# Altium footprint library LEDs.PcbLib: 17 footprints (part 1 of 2)
Each footprint in its own frame and in the unit in brackets; x right, y up, seen from the top. Pads: shape width x height; smd on the part's side, far side on the other; paste and mask are expansions set on the pad; w line width, h text height; cw(c..) or ccw(c..) is an arc to the next point about the centre after c.
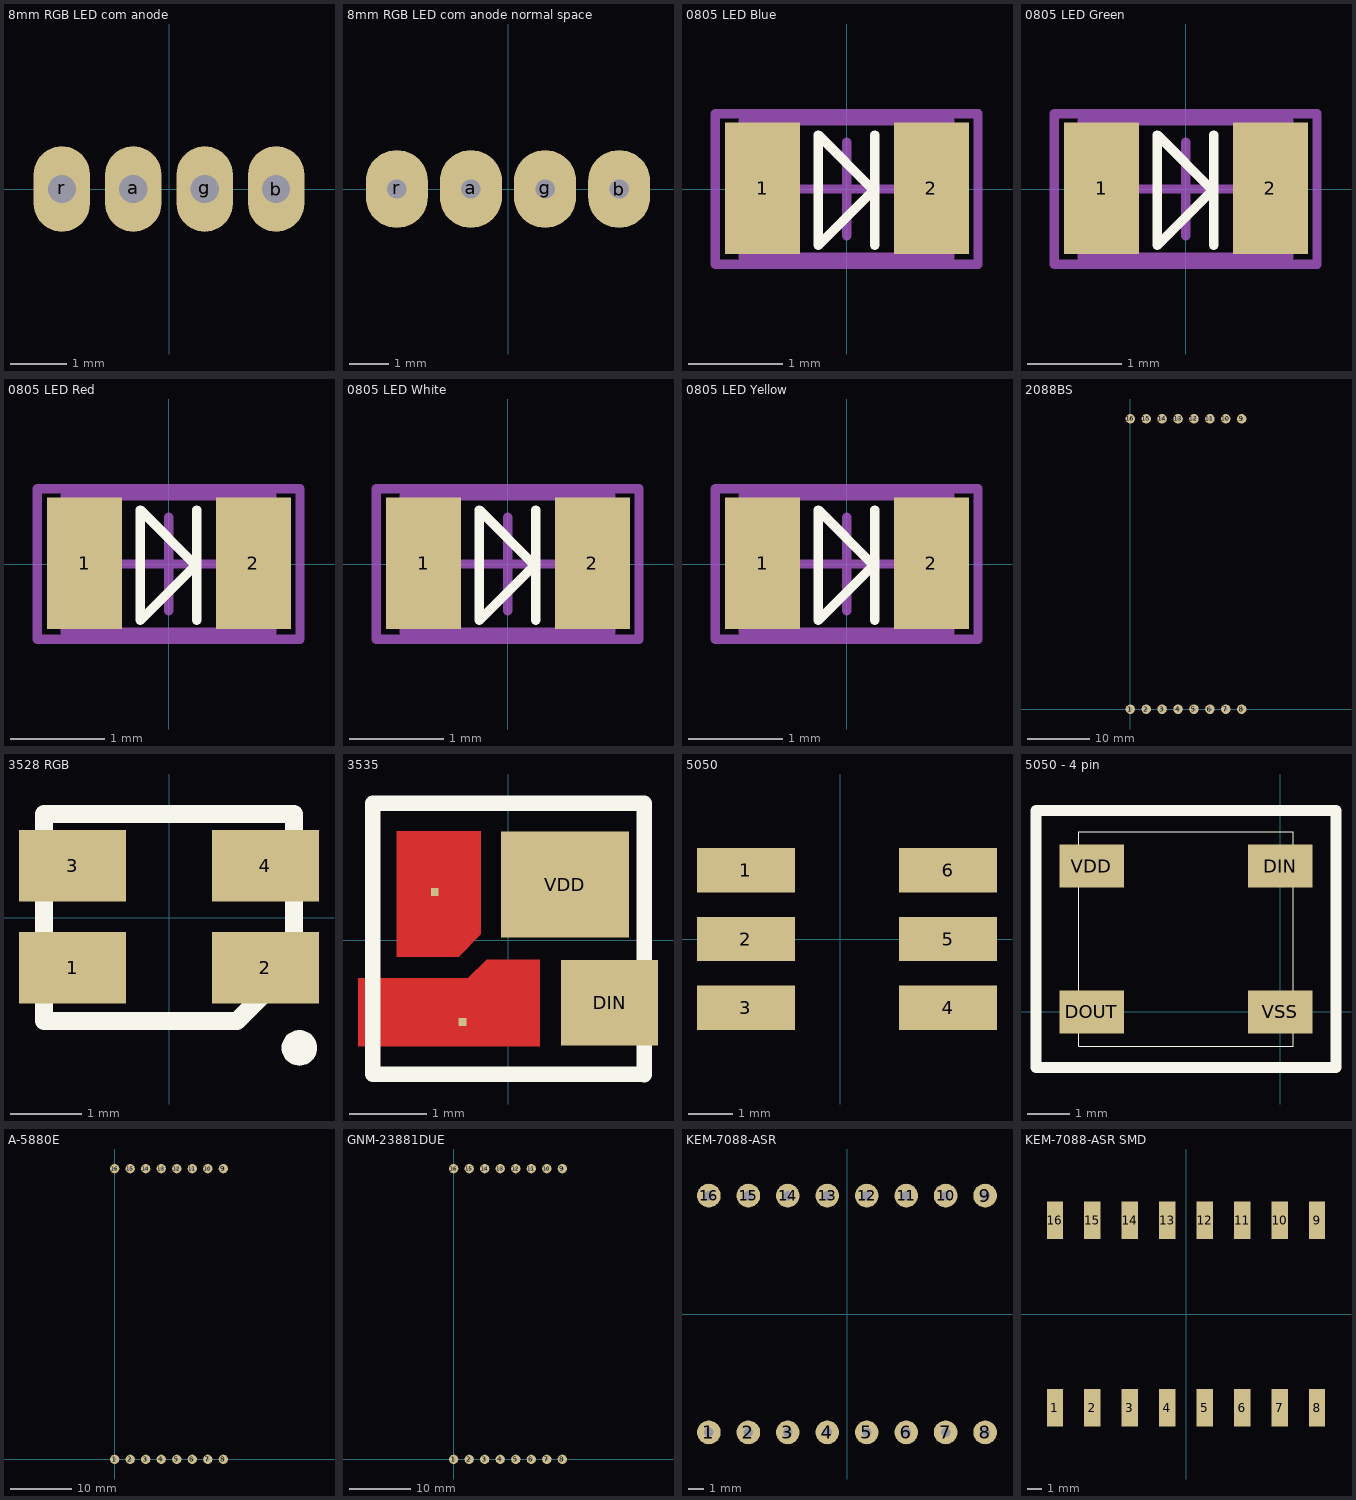
[diagram p0: the footprints below, top view; thin cyan lines are the x and y axes]

## 8mm RGB LED com anode [mm]
pads (4):
  oval 1x1.524 hole 0.5: a(-0.635,0) b(1.905,0) g(0.635,0) r(-1.905,0)
3D body "LED RGB 8mm.STEP": height 12.81, standoff -4.99, extent -4.14,-4.719 4.585,4.719

## 8mm RGB LED com anode normal space [mm]
pads (4):
  oval 1.6x2 hole 0.5: a(-0.953,0) b(2.857,0) g(0.953,0) r(-2.857,0)
3D body "LED RGB 8mm.STEP": height 14.68, standoff -3.12, extent -4.14,-4.719 4.585,4.719

## 0805 LED Blue [mm] "Chip Resistor, Body 2.0x1.2mm, IPC High Density"
height 0.7
pads (2):
  rect 0.8x1.4 smd: 1(-0.894,0.008) 2(0.903,0.008)
Top Overlay:
  lines w0.1: 0.3,-0.6 0.3,0.575 ; -0.3,-0.6 0.287,-0.013 -0.3,0.575 -0.3,-0.6
Mechanical 13:
  lines w0.1: -1.1,-0.725 -1.1,0.725 1.1,0.725 1.1,-0.725 -1.1,-0.725
Mechanical 15:
  lines w0.1: -0.5,0 0.5,0 ; 0,-0.5 0,0.5 ; -1.4,-0.8 -1.4,0.8 1.4,0.8 1.4,-0.8 -1.4,-0.8
3D body "LED 0805 Lens BLUE.STEP": height 0.9, standoff 0.3, extent -0.65,-0.625 0.65,0.625
3D body "LED 0805 Base BLUE.STEP": height 0.4, standoff 0, extent -1,-0.625 1,0.625

## 0805 LED Green [mm] "Chip Resistor, Body 2.0x1.2mm, IPC High Density"
height 0.7
pads (2):
  rect 0.8x1.4 smd: 1(-0.894,0.008) 2(0.903,0.008)
Top Overlay:
  lines w0.1: 0.3,-0.6 0.3,0.575 ; -0.3,-0.6 -0.3,0.575 0.287,-0.013 -0.3,-0.6
Mechanical 13:
  lines w0.1: -1.1,-0.725 1.1,-0.725 1.1,0.725 -1.1,0.725 -1.1,-0.725
Mechanical 15:
  lines w0.1: -0.5,0 0.5,0 ; 0,-0.5 0,0.5 ; -1.4,-0.8 1.4,-0.8 1.4,0.8 -1.4,0.8 -1.4,-0.8
3D body "LED 0805 Base GREEN.STEP": height 0.4, standoff 0, extent -1,-0.625 1,0.625
3D body "LED 0805 Lens GREEN.STEP": height 0.9, standoff 0.3, extent -0.65,-0.625 0.65,0.625

## 0805 LED Red [mm] "Chip Resistor, Body 2.0x1.2mm, IPC High Density"
height 0.7
pads (2):
  rect 0.8x1.4 smd: 1(-0.894,0.008) 2(0.903,0.008)
Top Overlay:
  lines w0.1: 0.3,-0.6 0.3,0.575 ; -0.3,-0.6 0.287,-0.013 -0.3,0.575 -0.3,-0.6
Mechanical 13:
  lines w0.1: -1.1,-0.725 -1.1,0.725 1.1,0.725 1.1,-0.725 -1.1,-0.725
Mechanical 15:
  lines w0.1: -0.5,0 0.5,0 ; 0,-0.5 0,0.5 ; -1.4,-0.8 -1.4,0.8 1.4,0.8 1.4,-0.8 -1.4,-0.8
3D body "LED 0805 Base RED.STEP": height 0.4, standoff 0, extent -1,-0.625 1,0.625
3D body "LED 0805 Lens RED.STEP": height 0.9, standoff 0.3, extent -0.65,-0.625 0.65,0.625

## 0805 LED White [mm] "Chip Resistor, Body 2.0x1.2mm, IPC High Density"
height 0.7
pads (2):
  rect 0.8x1.4 smd: 1(-0.894,0.008) 2(0.903,0.008)
Top Overlay:
  lines w0.1: 0.3,-0.6 0.3,0.575 ; -0.3,-0.6 0.287,-0.013 -0.3,0.575 -0.3,-0.6
Mechanical 13:
  lines w0.1: -1.1,-0.725 -1.1,0.725 1.1,0.725 1.1,-0.725 -1.1,-0.725
Mechanical 15:
  lines w0.1: -0.5,0 0.5,0 ; 0,-0.5 0,0.5 ; -1.4,-0.8 -1.4,0.8 1.4,0.8 1.4,-0.8 -1.4,-0.8
3D body "LED 0805 Base WHITE.STEP": height 0.4, standoff 0, extent -1,-0.625 1,0.625
3D body "LED 0805 Lens WHITE.STEP": height 0.9, standoff 0.3, extent -0.65,-0.625 0.65,0.625

## 0805 LED Yellow [mm] "Chip Resistor, Body 2.0x1.2mm, IPC High Density"
height 0.7
pads (2):
  rect 0.8x1.4 smd: 1(-0.894,0.008) 2(0.903,0.008)
Top Overlay:
  lines w0.1: 0.3,-0.6 0.3,0.575 ; -0.3,-0.6 0.287,-0.013 -0.3,0.575 -0.3,-0.6
Mechanical 13:
  lines w0.1: -1.1,-0.725 -1.1,0.725 1.1,0.725 1.1,-0.725 -1.1,-0.725
Mechanical 15:
  lines w0.1: -0.5,0 0.5,0 ; 0,-0.5 0,0.5 ; -1.4,-0.8 -1.4,0.8 1.4,0.8 1.4,-0.8 -1.4,-0.8
3D body "LED 0805 Base YELLOW.STEP": height 0.4, standoff 0, extent -1,-0.625 1,0.625
3D body "LED 0805 Lens YELLOW.STEP": height 0.9, standoff 0.3, extent -0.65,-0.625 0.65,0.625

## 2088BS [mil] "led matrix 5mm"
pads (16):
  round 60 hole 23.62: 1(0,0) 2(100,0) 3(200,0) 4(300,0) 5(400,0) 6(500,0) 7(600,0) 8(700,0) 9(700,1825) 10(600,1825) 11(500,1825) 12(400,1825) 13(300,1825) 14(200,1825) 15(100,1825) 16(0,1825)
3D body "led_matrix.STEP": height 356.3, standoff -194.09, extent -823.61,-269.87 1553.55,2107.29

## 3528 RGB [mm]
pads (5):
  rect 1.5x1 smd: 1(-1.35,-0.7) 2(1.35,-0.7) 3(-1.35,0.725) 4(1.35,0.725)
  round 0.5 on Top Overlay: ""(1.825,-1.825)
Top Overlay:
  lines w0.254: -1.75,-1.45 -1.75,1.45 1.75,1.45 1.75,-0.65 0.95,-1.45 -1.75,-1.45
3D body "User Library-KAA-3528.step": height 1.9, standoff 0, extent -1.75,-1.4 1.75,1.4

## 3535 [mm] "RGB"
pads (4):
  rect 1.25x1.1 smd: DIN(1.31,-0.805)
  rect 0.1x0.1 smd: DOUT(-0.95,0.625) VSS(-0.59,-1.055)
  rect 1.65x1.37 smd: VDD(0.735,0.72)
Top Layer:
  region: -0.356,1.41 -0.356,0.076 -0.642,-0.21 -1.44,-0.21 -1.44,1.41
  region: 0.406,-1.37 -1.94,-1.37 -1.94,-0.49 -0.52,-0.49 -0.28,-0.25 0.406,-0.25
Top Overlay:
  lines w0.2: 1.76,-1.735 1.76,1.76 ; 1.76,-1.73 -1.75,-1.73 -1.75,1.77 1.76,1.77
3D body "User Library-HP-XI3535.step": height 0.65, standoff 0, extent -1.74,-1.73 1.76,1.77

## 5050 [mm] "SMD RGB LED"
pads (6):
  rect 2.2x1 smd: 1(-2.125,1.55) 2(-2.125,0) 3(-2.125,-1.55) 4(2.425,-1.55) 5(2.425,0) 6(2.425,1.55)
3D body "User Library-smd_led_5050.STEP": height 1.6, standoff 0, extent -2.5,-2.5 2.8,2.5

## 5050 - 4 pin [mm]
pads (4):
  rect 1.5x1 smd: DIN(0,3.4) DOUT(-4.4,0) VDD(-4.4,3.4) VSS(0,0)
Top Overlay:
  lines w0.025: -4.7,-0.8 0.3,-0.8 0.3,4.2 -4.7,4.2 -4.7,-0.8
  lines w0.25: -5.7,-1.3 1.3,-1.3 1.3,4.7 -5.7,4.7 -5.7,-1.3
3D body "WS2812_RGB_LED_updated.stp": height 1.7, standoff 0, extent -4.85,-0.75 0.5,4.2

## A-5880E [mil] "led matrix 5mm"
pads (16):
  round 60 hole 23.62: 1(0,0) 2(100,0) 3(200,0) 4(300,0) 5(400,0) 6(500,0) 7(600,0) 8(700,0) 9(700,1872.44) 10(600,1872.44) 11(500,1872.44) 12(400,1872.44) 13(300,1872.44) 14(200,1872.44) 15(100,1872.44) 16(0,1872.44)
3D body "led_matrix.STEP": height 356.3, standoff -194.09, extent -823.61,-244.87 1553.55,2132.29

## GNM-23881DUE [mil] "brght led matrix 5mm"
pads (16):
  round 60 hole 23.62: 1(0,0) 2(100,0) 3(200,0) 4(300,0) 5(400,0) 6(500,0) 7(600,0) 8(700,0) 9(700,1872.44) 10(600,1872.44) 11(500,1872.44) 12(400,1872.44) 13(300,1872.44) 14(200,1872.44) 15(100,1872.44) 16(0,1872.44)
3D body "led_matrix.STEP": height 356.3, standoff -194.09, extent -823.61,-244.87 1553.55,2132.29

## KEM-7088-ASR [mm] "LED matrix 1.9mm, 20x20mm"
pads (16):
  round 1.5 hole 0.6: 1(-8.75,-7.5) 2(-6.25,-7.5) 3(-3.75,-7.5) 4(-1.25,-7.5) 5(1.25,-7.5) 6(3.75,-7.5) 7(6.25,-7.5) 8(8.75,-7.5) 9(8.75,7.5) 10(6.25,7.5) 11(3.75,7.5) 12(1.25,7.5) 13(-1.25,7.5) 14(-3.75,7.5) 15(-6.25,7.5) 16(-8.75,7.5)
3D body "LED matrix 1.9mm.STEP": height 12, standoff 0, extent -10,-10 10,10

## KEM-7088-ASR SMD [mm] "LED matrix 1.9mm, 20x20mm"
pads (16):
  rect 1.1x2.56 smd: 1(-8.89,-6.35) 2(-6.35,-6.35) 3(-3.81,-6.35) 4(-1.27,-6.35) 5(1.27,-6.35) 6(3.81,-6.35) 7(6.35,-6.35) 8(8.89,-6.35) 9(8.89,6.35) 10(6.35,6.35) 11(3.81,6.35) 12(1.27,6.35) 13(-1.27,6.35) 14(-3.81,6.35) 15(-6.35,6.35) 16(-8.89,6.35)
3D body "User Library-16pin 0_3inch 2_54mm IC DIP-SMD Socket.STEP": height 5.69, standoff 0.01, extent -10.17,5.27 10.15,10.2
3D body "LED matrix 1.9mm 3mm pins.STEP": height 11, standoff 2, extent -10,-10 10,10
3D body "User Library-16pin 0_3inch 2_54mm IC DIP-SMD Socket.STEP": height 5.69, standoff 0.01, extent -10.15,-10.2 10.17,-5.27